# EAGLE library part ATSAM3X4C (library toyotune)
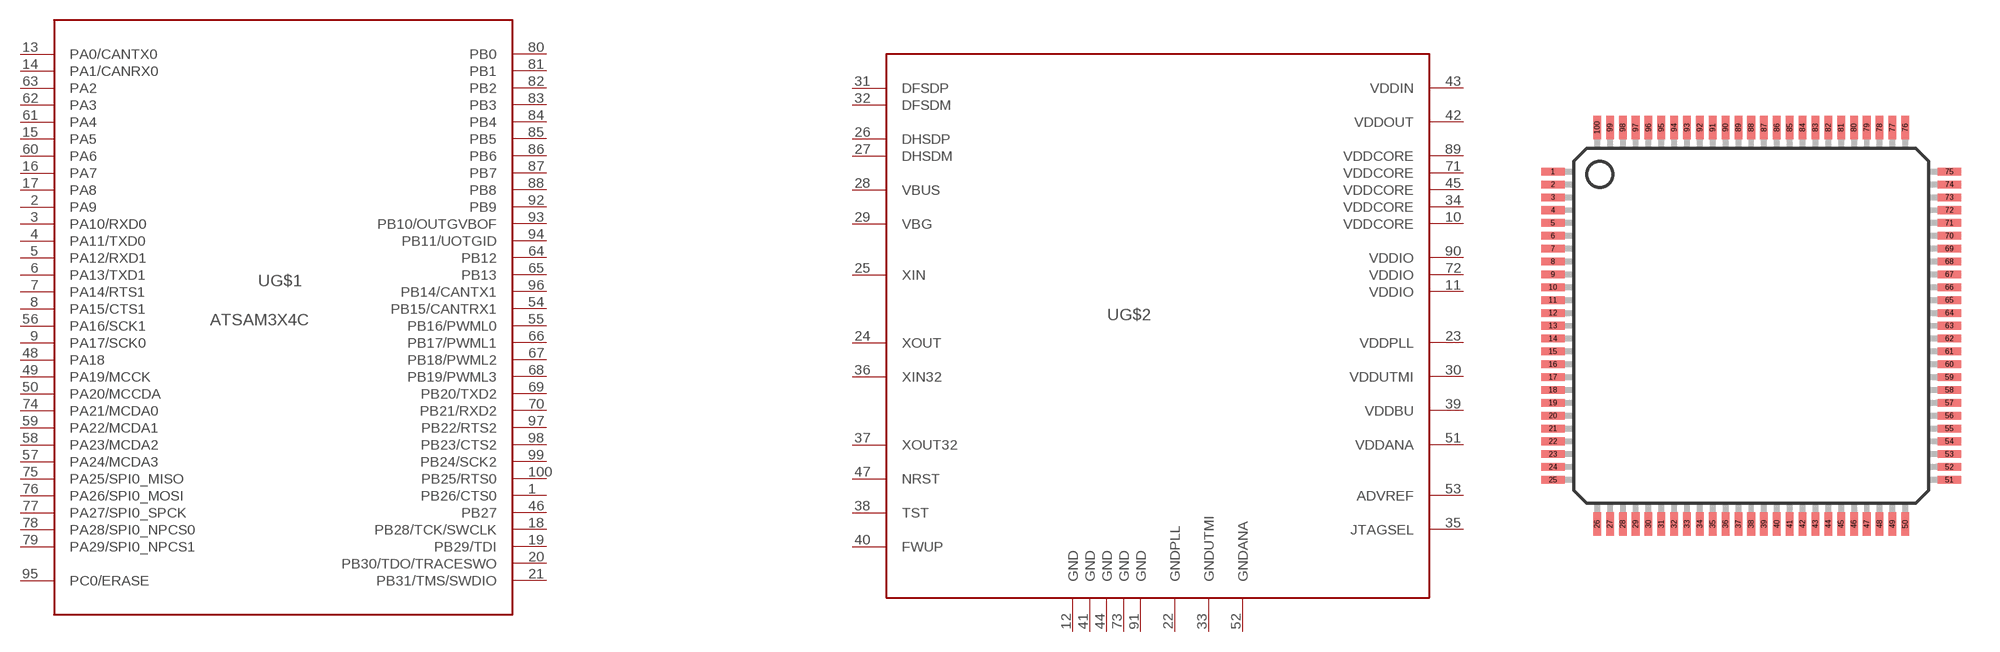
[diagram p49: symbol with the pads of LQFP100; footprint LQFP100]

Designator prefix -; gates G$1=ATSAM3X4C G$2=ATSAM3X4C_PWR

## ATSAM3X4C  [LQFP100]
1  G$1:PB26/CTS0
2  G$1:PA9
3  G$1:PA10/RXD0
4  G$1:PA11/TXD0
5  G$1:PA12/RXD1
6  G$1:PA13/TXD1
7  G$1:PA14/RTS1
8  G$1:PA15/CTS1
9  G$1:PA17/SCK0
10  G$2:VDDCORE  pwr
11  G$2:VDDIO  pwr
12  G$2:GND  pwr
13  G$1:PA0/CANTX0
14  G$1:PA1/CANRX0
15  G$1:PA5
16  G$1:PA7
17  G$1:PA8
18  G$1:PB28/TCK/SWCLK
19  G$1:PB29/TDI
20  G$1:PB30/TDO/TRACESWO
21  G$1:PB31/TMS/SWDIO
22  G$2:GNDPLL  pwr
23  G$2:VDDPLL  pwr
24  G$2:XOUT  out
25  G$2:XIN  in
26  G$2:DHSDP
27  G$2:DHSDM
28  G$2:VBUS
29  G$2:VBG  pwr
30  G$2:VDDUTMI  pwr
31  G$2:DFSDP
32  G$2:DFSDM
33  G$2:GNDUTMI  pwr
34  G$2:VDDCORE  pwr
35  G$2:JTAGSEL  in
36  G$2:XIN32  in
37  G$2:XOUT32  out
38  G$2:TST
39  G$2:VDDBU  pwr
40  G$2:FWUP
41  G$2:GND  pwr
42  G$2:VDDOUT  pwr
43  G$2:VDDIN  pwr
44  G$2:GND  pwr
45  G$2:VDDCORE  pwr
46  G$1:PB27
47  G$2:NRST
48  G$1:PA18
49  G$1:PA19/MCCK
50  G$1:PA20/MCCDA
51  G$2:VDDANA  pwr
52  G$2:GNDANA  pwr
53  G$2:ADVREF  pwr
54  G$1:PB15/CANTRX1
55  G$1:PB16/PWML0
56  G$1:PA16/SCK1
57  G$1:PA24/MCDA3
58  G$1:PA23/MCDA2
59  G$1:PA22/MCDA1
60  G$1:PA6
61  G$1:PA4
62  G$1:PA3
63  G$1:PA2
64  G$1:PB12
65  G$1:PB13
66  G$1:PB17/PWML1
67  G$1:PB18/PWML2
68  G$1:PB19/PWML3
69  G$1:PB20/TXD2
70  G$1:PB21/RXD2
71  G$2:VDDCORE  pwr
72  G$2:VDDIO  pwr
73  G$2:GND  pwr
74  G$1:PA21/MCDA0
75  G$1:PA25/SPI0_MISO
76  G$1:PA26/SPI0_MOSI
77  G$1:PA27/SPI0_SPCK
78  G$1:PA28/SPI0_NPCS0
79  G$1:PA29/SPI0_NPCS1
80  G$1:PB0
81  G$1:PB1
82  G$1:PB2
83  G$1:PB3
84  G$1:PB4
85  G$1:PB5
86  G$1:PB6
87  G$1:PB7
88  G$1:PB8
89  G$2:VDDCORE  pwr
90  G$2:VDDIO  pwr
91  G$2:GND  pwr
92  G$1:PB9
93  G$1:PB10/OUTGVBOF
94  G$1:PB11/UOTGID
95  G$1:PC0/ERASE
96  G$1:PB14/CANTX1
97  G$1:PB22/RTS2
98  G$1:PB23/CTS2
99  G$1:PB24/SCK2
100  G$1:PB25/RTS0

## Footprint LQFP100 (pad centres in mm)
Low Profile Quad Flat Pack
smd 0.9 x 0.3: 1 -7.72,6; 2 -7.72,5.5; 3 -7.72,5; 4 -7.72,4.5; 5 -7.72,4; 6 -7.72,3.5; 7 -7.72,3; 8 -7.72,2.5; 9 -7.72,2; 10 -7.72,1.5; 11 -7.72,1; 12 -7.72,0.5; 13 -7.72,0; 14 -7.72,-0.5; 15 -7.72,-1; 16 -7.72,-1.5; 17 -7.72,-2; 18 -7.72,-2.5; 19 -7.72,-3; 20 -7.72,-3.5; 21 -7.72,-4; 22 -7.72,-4.5; 23 -7.72,-5; 24 -7.72,-5.5; 25 -7.72,-6; 51 7.72,-6; 52 7.72,-5.5; 53 7.72,-5; 54 7.72,-4.5; 55 7.72,-4; 56 7.72,-3.5; 57 7.72,-3; 58 7.72,-2.5; 59 7.72,-2; 60 7.72,-1.5; 61 7.72,-1; 62 7.72,-0.5; 63 7.72,0; 64 7.72,0.5; 65 7.72,1; 66 7.72,1.5; 67 7.72,2; 68 7.72,2.5; 69 7.72,3; 70 7.72,3.5; 71 7.72,4; 72 7.72,4.5; 73 7.72,5; 74 7.72,5.5; 75 7.72,6
smd 0.3 x 0.9: 26 -6,-7.72; 27 -5.5,-7.72; 28 -5,-7.72; 29 -4.5,-7.72; 30 -4,-7.72; 31 -3.5,-7.72; 32 -3,-7.72; 33 -2.5,-7.72; 34 -2,-7.72; 35 -1.5,-7.72; 36 -1,-7.72; 37 -0.5,-7.72; 38 0,-7.72; 39 0.5,-7.72; 40 1,-7.72; 41 1.5,-7.72; 42 2,-7.72; 43 2.5,-7.72; 44 3,-7.72; 45 3.5,-7.72; 46 4,-7.72; 47 4.5,-7.72; 48 5,-7.72; 49 5.5,-7.72; 50 6,-7.72; 76 6,7.72; 77 5.5,7.72; 78 5,7.72; 79 4.5,7.72; 80 4,7.72; 81 3.5,7.72; 82 3,7.72; 83 2.5,7.72; 84 2,7.72; 85 1.5,7.72; 86 1,7.72; 87 0.5,7.72; 88 0,7.72; 89 -0.5,7.72; 90 -1,7.72; 91 -1.5,7.72; 92 -2,7.72; 93 -2.5,7.72; 94 -3,7.72; 95 -3.5,7.72; 96 -4,7.72; 97 -4.5,7.72; 98 -5,7.72; 99 -5.5,7.72; 100 -6,7.72